# Altium schematic symbol library KF3.5.SchLib: 14 symbols
Pins are listed as number, name and electrical type; pins without a type are passive.

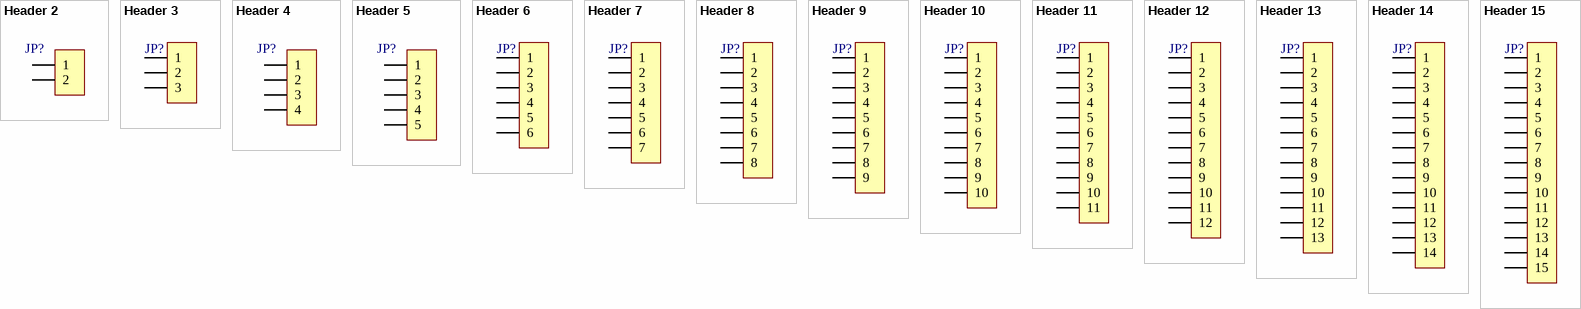
[diagram p0: symbols Header 2 to Header 15]

## Header 2
designator JP?, comment HDR-1X2  (value not drawn)
2P接插件; BOM名称: 2P接插件
footprint KF350-2P (可拼接端子/10A)
pins: 1, 2

## Header 3
designator JP?, comment HDR-1X3  (value not drawn)
3P接插件; BOM名称: 3P接插件
footprint KF350-3P (可拼接端子/10A)
pins: 1, 2, 3

## Header 4
designator JP?, comment HDR-1X4  (value not drawn)
4P接插件; BOM名称: 4P接插件
footprint KF350-4P (可拼接端子/10A)
pins: 1, 2, 3, 4

## Header 5
designator JP?, comment HDR-1X5  (value not drawn)
5P接插件; BOM名称: 5P接插件
footprint KF350-5P (可拼接端子/10A)
pins: 1, 2, 3, 4, 5

## Header 6
designator JP?, comment HDR-1X6  (value not drawn)
6P接插件; BOM名称: 6P接插件
footprint KF350-6P (可拼接端子/10A)
pins: 1, 2, 3, 4, 5, 6

## Header 7
designator JP?, comment HDR-1X7  (value not drawn)
7P接插件; BOM名称: 7P接插件
footprint KF350-7P (可拼接端子/10A)
pins: 1, 2, 3, 4, 5, 6, 7

## Header 8
designator JP?, comment HDR-1X8  (value not drawn)
8P接插件; BOM名称: 8P接插件
footprint KF350-8P (可拼接端子/10A)
pins: 1, 2, 3, 4, 5, 6, 7, 8

## Header 9
designator JP?, comment HDR-1X9  (value not drawn)
9P接插件; BOM名称: 9P接插件
footprint KF350-9P (可拼接端子/10A)
pins: 1, 2, 3, 4, 5, 6, 7, 8, 9

## Header 10
designator JP?, comment HDR-1X10  (value not drawn)
10P接插件; BOM名称: 10P接插件
footprint KF350-10P (可拼接端子/10A)
pins: 1, 2, 3, 4, 5, 6, 7, 8, 9, 10

## Header 11
designator JP?, comment HDR-1X11  (value not drawn)
11P接插件; BOM名称: 11P接插件
footprint KF350-11P (可拼接端子/10A)
pins: 1, 2, 3, 4, 5, 6, 7, 8, 9, 10, 11

## Header 12
designator JP?, comment HDR-1X12  (value not drawn)
12P接插件; BOM名称: 12P接插件
footprint KF350-12P (可拼接端子/10A)
pins: 1, 2, 3, 4, 5, 6, 7, 8, 9, 10, 11, 12

## Header 13
designator JP?, comment HDR-1X13  (value not drawn)
13P接插件; BOM名称: 13P接插件
footprint KF350-13P (可拼接端子/10A)
pins: 1, 2, 3, 4, 5, 6, 7, 8, 9, 10, 11, 12, 13

## Header 14
designator JP?, comment HDR-1X14  (value not drawn)
14P接插件; BOM名称: 14P接插件
footprint KF350-14P (可拼接端子/10A)
pins: 1, 2, 3, 4, 5, 6, 7, 8, 9, 10, 11, 12, 13, 14

## Header 15
designator JP?, comment HDR-1X15  (value not drawn)
15P接插件; BOM名称: 15P接插件
footprint KF350-15P (可拼接端子/10A)
pins: 1, 2, 3, 4, 5, 6, 7, 8, 9, 10, 11, 12, 13, 14, 15